# Altium footprint library ABRACON_ARJ11G-MB.PcbLib: 1 footprints
Each footprint in its own frame and in the unit in brackets; x right, y up, seen from the top. Pads: shape width x height; smd on the part's side, far side on the other; paste and mask are expansions set on the pad; w line width, h text height; cw(c..) or ccw(c..) is an arc to the next point about the centre after c.
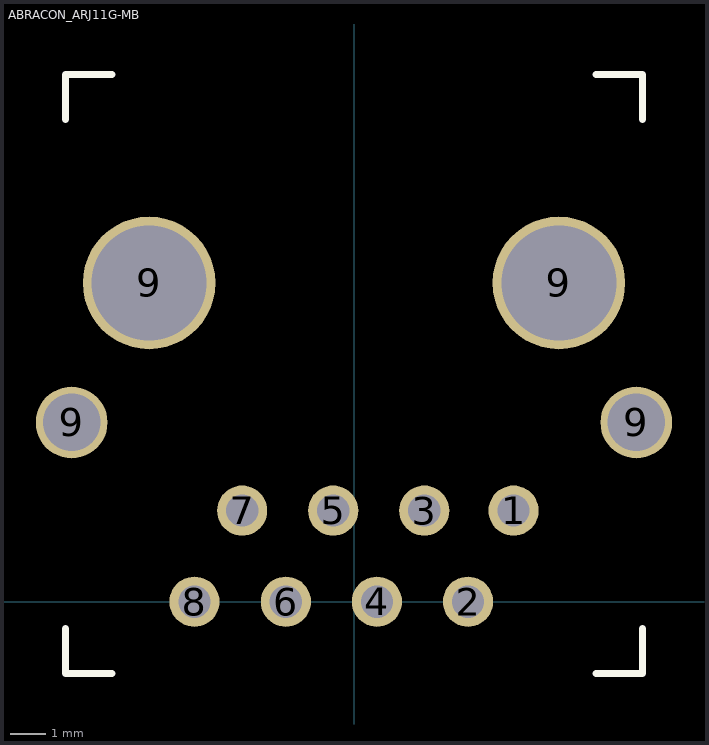
[diagram p0: the footprint, top view; thin cyan lines are the x and y axes]

## ABRACON_ARJ11G-MB [mm] "Abracon RJ45 Magjack, Vertical"
pads (12):
  round 1.4 hole 0.9: 1(4.45,2.54) 2(3.18,0) 3(1.96,2.54) 4(0.64,0) 5(-0.58,2.54) 6(-1.9,0) 7(-3.12,2.54) 8(-4.45,0)
  round 2 hole 1.6: 9(-7.875,5) 9(7.875,5)
  round 3.7 hole 3.2: 9(-5.715,8.89) 9(5.715,8.89)
Top Overlay:
  lines w0.2: -8.05,-0.75 -8.05,-2 -6.75,-2 ; -8.05,13.45 -8.05,14.7 -6.75,14.7 ; 6.75,-2 8.05,-2 8.05,-0.75 ; 6.75,14.7 8.05,14.7 8.05,13.45
3D body "ARJ11G-MB.STEP": height 17, standoff -3.25, extent -8.05,-2 8.05,14.7